# Altium schematic symbol library HW_ADHERENT_NFC_R1_L1.SchLib: 515 symbols (part 4 of 8)
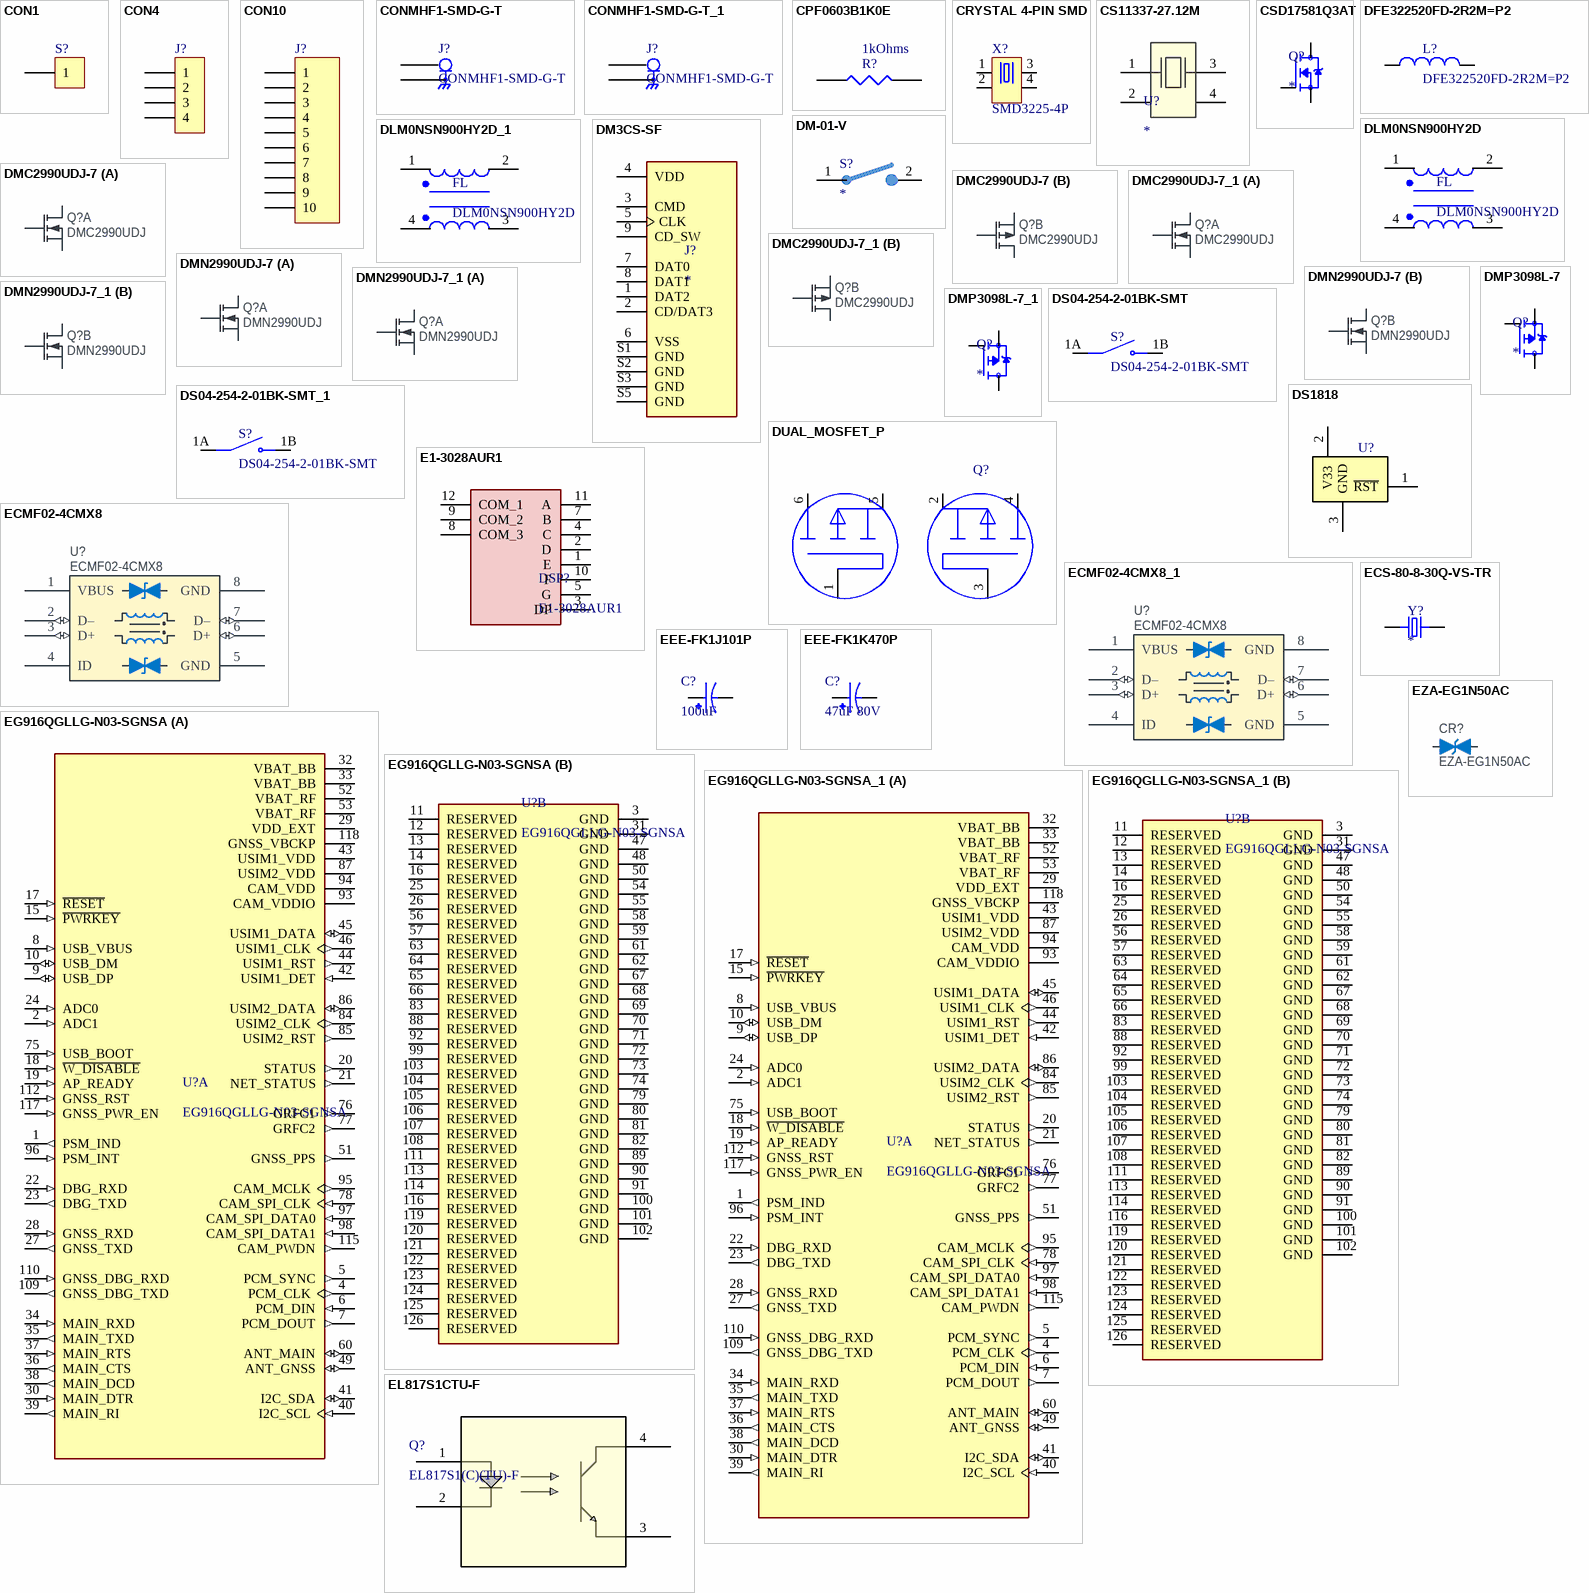
[diagram p18: symbols CON1 to EZA-EG1N50AC]

## DM3CS-SF
designator J?
10 (8 + 2) Position Card Connector Secure Digital - microSDâ„¢ Surface Mount, Right Angle Gold; MF: Hirose Connector; MP: DM3CS-SF; SnapEDA_Link: https://www.snapeda.com/parts/DM3CS-SF/Hirose/view-part/?ref=snap; Package: None; Value: *; Check_prices: https://www.snapeda.com/parts/DM3CS-SF/Hirose/view-part/?ref=eda
footprint HRS_DM3CS-SF
pins: 1 DAT2, 2 CD/DAT3, 3 CMD, 4 VDD, 5 CLK, 6 VSS, 7 DAT0, 8 DAT1, 9 CD_SW, S1 GND, S2 GND, S3 GND, S5 GND

## DM-01-V
designator S?
Switch; Manufacturer_Name: Diptronics; Manufacturer_Part_Number: DM-01-V; Datasheet Link: http://www.dip.com.tw/en/en-product-information/en-switch002/item/download/2412_2ffa0571076f7652f42c65d9d72a148c; Height: 3.91mm; Mouser Part Number: 113-DM01V; Mouser Price/Stock: https://www.mouser.co.uk/ProductDetail/Diptronics/DM-01-V?qs=MLItCLRbWswAak4sKQLihA%3D%3D
footprint DM01V
pins: 1, 2

## DMC2990UDJ-7
designator Q?, comment DMC2990UDJ
MOSFET, Dual N and P-Channel, 20V, 450mA/310mA, 990mOhm, 350mW; Part Number: DMC2990UDJ-7; Manufacturer: Diodes Incorporated; Part number IPS: 00000004489; Part number Norautron: 26470028; Part number NEMS: 101300174; Note: N.A.; Pad Count: 6; Component Status: Active; Manufacturer Part Number: DMC2990UDJ-7; ComponentLink1URL: https://www.diodes.com/assets/Datasheets/DMC2990UDJ.pdf; ComponentLink1Description: Datasheet; ComponentLink2URL: N.A.; ComponentLink2Description: Supplier link; HelpURL: N.A.; Footprint Doc: SOT-963; LatestRevisionDate: 2020-04-28; Published: 2020-02-21; Value: DMC2990UDJ; Supplier 1: Digi-Key; Supplier Part Number 1: DMC2990UDJ-7DICT-ND; Supplier 2: N.A.; Supplier Part Number 2: N.A.; Artikkelnr Noca: N.A.; PartId: 101300174; Component Class: Semiconductors; Author: rsk
footprint DMx299UDJ
part A pins: 1 S1, 2 G1, 6 D1
part B pins: 3 D2, 4 S2, 5 G2

## DMC2990UDJ-7_1
designator Q?, comment DMC2990UDJ
MOSFET, Dual N and P-Channel, 20V, 450mA/310mA, 990mOhm, 350mW; Part Number: DMC2990UDJ-7; Manufacturer: Diodes Incorporated; Part number IPS: 00000004489; Part number Norautron: 26470028; Part number NEMS: 101300174; Note: N.A.; Pad Count: 6; Component Status: Active; Manufacturer Part Number: DMC2990UDJ-7; ComponentLink1URL: https://www.diodes.com/assets/Datasheets/DMC2990UDJ.pdf; ComponentLink1Description: Datasheet; ComponentLink2URL: N.A.; ComponentLink2Description: Supplier link; HelpURL: N.A.; Footprint Doc: SOT-963; LatestRevisionDate: 2020-04-28; Published: 2020-02-21; Value: DMC2990UDJ; Supplier 1: Digi-Key; Supplier Part Number 1: DMC2990UDJ-7DICT-ND; Supplier 2: N.A.; Supplier Part Number 2: N.A.; Artikkelnr Noca: N.A.; PartId: 101300174; Component Class: Semiconductors; Author: rsk
footprint DMx299UDJ
part A pins: 1 S1, 2 G1, 6 D1
part B pins: 3 D2, 4 S2, 5 G2

## DMN2990UDJ-7
designator Q?, comment DMN2990UDJ
MOSFET, Dual N-Channel, 20V, 450mA, 990mOhm, 350mW; Part Number: DMN2990UDJ-7; Manufacturer: Diodes Incorporated; Part number NEMS: 101300177; Note: N.A.; Pad Count: 6; Component Status: Active; Manufacturer Part Number: DMN2990UDJ-7; Footprint Doc: SOT-963; LatestRevisionDate: 2020-05-19; Published: 2020-05-19; Value: DMN2990UDJ; Artikkelnr Noca: N.A.; Part number IPS: N.A.; Supplier 1: Digi-Key; Supplier Part Number 1: DMN2990UDJ-7DICT-ND; Supplier 2: N.A.; Supplier Part Number 2: N.A.; ComponentLink1URL: https://www.diodes.com/assets/Datasheets/DMN2990UDJ.pdf; ComponentLink1Description: Datasheet; ComponentLink2URL: https://www.digikey.com/product-detail/en/diodes-incorporated/DMN2990UDJ-7/DMN2990UDJ-7DICT-ND/2756062; ComponentLink2Description: Supplier link; HelpURL: N.A.; PartId: 101300177; Component Class: Semiconductors; Author: rsk; Part number Norautron: N.A.
footprint DMx299UDJ
part A pins: 1 S1, 2 G1, 6 D1
part B pins: 3 D2, 4 S2, 5 G2

## DMN2990UDJ-7_1
designator Q?, comment DMN2990UDJ
MOSFET, Dual N-Channel, 20V, 450mA, 990mOhm, 350mW; Part Number: DMN2990UDJ-7; Manufacturer: Diodes Incorporated; Part number NEMS: 101300177; Note: N.A.; Pad Count: 6; Component Status: Active; Manufacturer Part Number: DMN2990UDJ-7; Footprint Doc: SOT-963; LatestRevisionDate: 2020-05-19; Published: 2020-05-19; Value: DMN2990UDJ; Artikkelnr Noca: N.A.; Part number IPS: N.A.; Supplier 1: Digi-Key; Supplier Part Number 1: DMN2990UDJ-7DICT-ND; Supplier 2: N.A.; Supplier Part Number 2: N.A.; ComponentLink1URL: https://www.diodes.com/assets/Datasheets/DMN2990UDJ.pdf; ComponentLink1Description: Datasheet; ComponentLink2URL: https://www.digikey.com/product-detail/en/diodes-incorporated/DMN2990UDJ-7/DMN2990UDJ-7DICT-ND/2756062; ComponentLink2Description: Supplier link; HelpURL: N.A.; PartId: 101300177; Component Class: Semiconductors; Author: rsk; Part number Norautron: N.A.
footprint DMx299UDJ
part A pins: 1 S1, 2 G1, 6 D1
part B pins: 3 D2, 4 S2, 5 G2

## DMP3098L-7
designator Q?
DMP3098L Series 30 V 70 mOhm P-Channel Enhancement Mode Mosfet - SOT-23-3; MP: DMP3098L7; MF: Diodes Incorporated; SnapEDA_Link: https://www.snapeda.com/parts/DMP3098L7/Diodes+Inc./view-part/?ref=snap; Availability: In Stock; Package: None; Purchase-URL: https://pricing.snapeda.com/search/part/DMP3098L7/?ref=eda; Check_prices: https://www.snapeda.com/parts/DMP3098L7/Diodes+Inc./view-part/?ref=eda; Value: *; Price: None
footprint SOT91P240X110-3N
pins: 1 G, 2 S, 3 D

## DMP3098L-7_1
designator Q?
DMP3098L Series 30 V 70 mOhm P-Channel Enhancement Mode Mosfet - SOT-23-3; MP: DMP3098L7; MF: Diodes Incorporated; SnapEDA_Link: https://www.snapeda.com/parts/DMP3098L7/Diodes+Inc./view-part/?ref=snap; Availability: In Stock; Package: None; Purchase-URL: https://pricing.snapeda.com/search/part/DMP3098L7/?ref=eda; Check_prices: https://www.snapeda.com/parts/DMP3098L7/Diodes+Inc./view-part/?ref=eda; Value: *; Price: None
footprint SOT91P240X110-3N
pins: 1 G, 2 S, 3 D

## DS04-254-2-01BK-SMT
designator S?
1 Position, Surface Mount, 2.54 mm Pitch, Flat Slide Actuator, Flat Bottom, SMT Pin, DIP Switch; MF: Same Sky; SnapEDA_Link: https://www.snapeda.com/parts/DS04-254-2-01BK-SMT/Same+Sky/view-part/?ref=snap; Package: None; Value: *; MP: DS04-254-2-01BK-SMT; Check_prices: https://www.snapeda.com/parts/DS04-254-2-01BK-SMT/Same+Sky/view-part/?ref=eda
footprint SW_DS04-254-2-01BK-SMT
pins: 1A COM, 1B NO

## DS04-254-2-01BK-SMT_1
designator S?, comment DS04-254-2-01BK-SMT
1 Position, Surface Mount, 2.54 mm Pitch, Flat Slide Actuator, Flat Bottom, SMT Pin, DIP Switch; MF: Same Sky; SnapEDA_Link: https://www.snapeda.com/parts/DS04-254-2-01BK-SMT/Same+Sky/view-part/?ref=snap; Package: None; Value: *; MP: DS04-254-2-01BK-SMT; Check_prices: https://www.snapeda.com/parts/DS04-254-2-01BK-SMT/Same+Sky/view-part/?ref=eda
footprint SW_DS04-254-2-01BK-SMT
pins: 1A COM, 1B NO

## DS1818
designator U?
footprint DS1818
pins: 1 ~{RST}, 2 V33, 3 GND

## DUAL_MOSFET_P
designator Q?
footprint SSOT6A
pins: 1, 2, 3, 4, 5, 6

## E1-3028AUR1
designator DSP?
footprint E1-3028AUR1
pins: 1 E, 2 D, 3 DP, 4 C, 5 G, 7 B, 8 COM_3, 9 COM_2, 10 F, 11 A, 12 COM_1

## ECMF02-4CMX8
designator U?
2 Line Common mode filter with ESD protection for USB 2.0 interface; Manufacturer: STMicroelectronics; Part number NEMS: 100800034; Component Status: Active; Pad Count: 8; Note: N.A.; Part Number: ECMF02-4CMX8; PartId: 100800034; Component Class: Filters; Author: eisk; Manufacturer Part Number: ECMF02-4CMX8; ComponentLink1URL: https://www.st.com/content/ccc/resource/technical/document/datasheet/group3/1c/93/cf/72/85/cf/4d/d6/DM00039389/files/DM00039389.pdf/jcr:content/translations/en.DM00039389.pdf; ComponentLink1Description: Datasheet; ComponentLink2URL: https://www.digikey.com/en/products/detail/stmicroelectronics/ECMF02-4CMX8/3770020; ComponentLink2Description: Supplier link; HelpURL: https://www.st.com/content/ccc/resource/technical/document/datasheet/group3/1c/93/cf/72/85/cf/4d/d6/DM00039389/files/DM00039389.pdf/jcr:content/translations/en.DM00039389.pdf; LatestRevisionDate: 2024-01-31; Published: 2024-01-31; Footprint Doc: UFDFN-8; Value: ECMF02-4CMX8; Supplier 1: Digi-Key; Supplier Part Number 1: 497-13420-2-ND; Supplier 2: Mouser; Supplier Part Number 2: 511-ECMF02-4CMX8; Artikkelnr Noca: N.A.; Part number IPS: N.A.; Part number Norautron: N.A.
footprint UFDFN50P120X250X55-8N
pins: 1 VBUS (power), 2 D– (io), 3 D+ (io), 4 ID, 5 GND (power), 6 D+ (io), 7 D– (io), 8 GND (power)

## ECMF02-4CMX8_1
designator U?, comment ECMF02-4CMX8
2 Line Common mode filter with ESD protection for USB 2.0 interface; Manufacturer: STMicroelectronics; Part number NEMS: 100800034; Component Status: Active; Pad Count: 8; Note: N.A.; Part Number: ECMF02-4CMX8; PartId: 100800034; Component Class: Filters; Author: eisk; Manufacturer Part Number: ECMF02-4CMX8; ComponentLink1URL: https://www.st.com/content/ccc/resource/technical/document/datasheet/group3/1c/93/cf/72/85/cf/4d/d6/DM00039389/files/DM00039389.pdf/jcr:content/translations/en.DM00039389.pdf; ComponentLink1Description: Datasheet; ComponentLink2URL: https://www.digikey.com/en/products/detail/stmicroelectronics/ECMF02-4CMX8/3770020; ComponentLink2Description: Supplier link; HelpURL: https://www.st.com/content/ccc/resource/technical/document/datasheet/group3/1c/93/cf/72/85/cf/4d/d6/DM00039389/files/DM00039389.pdf/jcr:content/translations/en.DM00039389.pdf; LatestRevisionDate: 2024-01-31; Published: 2024-01-31; Footprint Doc: UFDFN-8; Value: ECMF02-4CMX8; Supplier 1: Digi-Key; Supplier Part Number 1: 497-13420-2-ND; Supplier 2: Mouser; Supplier Part Number 2: 511-ECMF02-4CMX8; Artikkelnr Noca: N.A.; Part number IPS: N.A.; Part number Norautron: N.A.
footprint UFDFN50P120X250X55-8N
pins: 1 VBUS (power), 2 D– (io), 3 D+ (io), 4 ID, 5 GND (power), 6 D+ (io), 7 D– (io), 8 GND (power)

## ECS-80-8-30Q-VS-TR
designator Y?
8 MHz Â±30ppm Crystal 8pF 100 Ohms 2-SMD, No Lead; MF: ECS Inc.; MP: ECS-80-8-30Q-VS-TR; SnapEDA_Link: https://www.snapeda.com/parts/ECS-80-8-30Q-VS-TR/ECS/view-part/?ref=snap; Package: SMD-2 ECS Inc.; Value: *; Check_prices: https://www.snapeda.com/parts/ECS-80-8-30Q-VS-TR/ECS/view-part/?ref=eda
footprint XTAL_ECS-80-8-30Q-VS-TR
pins: 1 IN/OUT, 2 OUT/IN

## EEE-FK1J101P
designator C?, comment 100uF
100 µF 63 V Aluminum Electrolytic Capacitors Radial, Can - SMD 2000 Hrs @ 105°C; Manufacturer: Panasonic Industry; Supplier: Digi; PCE3819DKR-ND
footprint CAP_EEEFK1J101P
pins: 1, 2

## EEE-FK1K470P
designator C?, comment 47uF 80V
47 µF 80 V Aluminum Electrolytic Capacitors Radial, Can - SMD 2000 Hrs @ 105°C; Manufacturer: Panasonic Industry; Supplier: Digi; PCE3831DKR-ND
footprint CAP_EEEFK1K470P
pins: 1, 2

## EG916QGLLG-N03-SGNSA
designator U?
Transceiver Module; MF: {'manufacturer': u'Quectel'}; Package: None; Price: None; Value: *; MP: EG916QGLLG-N03-SGNSA; Availability: Unavailable
footprint XCVR_EG916QGLLG-N03-SGNSA
part A pins: 1 PSM_IND (out), 2 ADC1 (in), 4 PCM_CLK (out), 5 PCM_SYNC (out), 6 PCM_DIN (in), 7 PCM_DOUT (out), 8 USB_VBUS (in), 9 USB_DP (io), 10 USB_DM (io), 15 ~{PWRKEY} (in), 17 ~{RESET} (in), 18 ~{W_DISABLE} (in), 19 AP_READY (in), 20 STATUS (out), 21 NET_STATUS (out), 22 DBG_RXD (in), 23 DBG_TXD (out), 24 ADC0 (in), 27 GNSS_TXD (out), 28 GNSS_RXD (in), 29 VDD_EXT (power), 30 MAIN_DTR (in), 32 VBAT_BB (power), 33 VBAT_BB (power), 34 MAIN_RXD (in), 35 MAIN_TXD (out), 36 MAIN_CTS (out), 37 MAIN_RTS (in), 38 MAIN_DCD (out), 39 MAIN_RI (out), 40 I2C_SCL (in), 41 I2C_SDA (io), 42 USIM1_DET (in), 43 USIM1_VDD (power), 44 USIM1_RST (out), 45 USIM1_DATA (io), 46 USIM1_CLK (out), 49 ANT_GNSS (io), 51 GNSS_PPS (out), 52 VBAT_RF (power), 53 VBAT_RF (power), 60 ANT_MAIN (io), 75 USB_BOOT (in), 76 GRFC1 (out), 77 GRFC2 (out), 78 CAM_SPI_CLK (in), 84 USIM2_CLK (out), 85 USIM2_RST (out), 86 USIM2_DATA (io), 87 USIM2_VDD (power), 93 CAM_VDDIO (power), 94 CAM_VDD (power), 95 CAM_MCLK (out), 96 PSM_INT (in), 97 CAM_SPI_DATA0 (in), 98 CAM_SPI_DATA1 (in), 109 GNSS_DBG_TXD (out), 110 GNSS_DBG_RXD (in), 112 GNSS_RST (in), 115 CAM_PWDN (out), 117 GNSS_PWR_EN (in), 118 GNSS_VBCKP (power)
part B pins: 3 GND (power), 11 RESERVED, 12 RESERVED, 13 RESERVED, 14 RESERVED, 16 RESERVED, 25 RESERVED, 26 RESERVED, 31 GND (power), 47 GND (power), 48 GND (power), 50 GND (power), 54 GND (power), 55 GND (power), 56 RESERVED, 57 RESERVED, 58 GND (power), 59 GND (power), 61 GND (power), 62 GND (power), 63 RESERVED, 64 RESERVED, 65 RESERVED, 66 RESERVED, 67 GND (power), 68 GND (power), 69 GND (power), 70 GND (power), 71 GND (power), 72 GND (power), 73 GND (power), 74 GND (power), 79 GND (power), 80 GND (power), 81 GND (power), 82 GND (power), 83 RESERVED, 88 RESERVED, 89 GND (power), 90 GND (power), 91 GND (power), 92 RESERVED, 99 RESERVED, 100 GND (power), 101 GND (power), 102 GND (power), 103 RESERVED, 104 RESERVED, 105 RESERVED, 106 RESERVED, 107 RESERVED, 108 RESERVED, 111 RESERVED, 113 RESERVED, 114 RESERVED, 116 RESERVED, 119 RESERVED, 120 RESERVED, 121 RESERVED, 122 RESERVED, 123 RESERVED, 124 RESERVED, 125 RESERVED, 126 RESERVED

## EG916QGLLG-N03-SGNSA_1
designator U?, comment EG916QGLLG-N03-SGNSA
Transceiver Module; MF: {'manufacturer': u'Quectel'}; Package: None; Price: None; Value: *; MP: EG916QGLLG-N03-SGNSA; Availability: Unavailable
footprint XCVR_EG916QGLLG-N03-SGNSA
part A pins: 1 PSM_IND (out), 2 ADC1 (in), 4 PCM_CLK (out), 5 PCM_SYNC (out), 6 PCM_DIN (in), 7 PCM_DOUT (out), 8 USB_VBUS (in), 9 USB_DP (io), 10 USB_DM (io), 15 ~{PWRKEY} (in), 17 ~{RESET} (in), 18 ~{W_DISABLE} (in), 19 AP_READY (in), 20 STATUS (out), 21 NET_STATUS (out), 22 DBG_RXD (in), 23 DBG_TXD (out), 24 ADC0 (in), 27 GNSS_TXD (out), 28 GNSS_RXD (in), 29 VDD_EXT (power), 30 MAIN_DTR (in), 32 VBAT_BB (power), 33 VBAT_BB (power), 34 MAIN_RXD (in), 35 MAIN_TXD (out), 36 MAIN_CTS (out), 37 MAIN_RTS (in), 38 MAIN_DCD (out), 39 MAIN_RI (out), 40 I2C_SCL (in), 41 I2C_SDA (io), 42 USIM1_DET (in), 43 USIM1_VDD (power), 44 USIM1_RST (out), 45 USIM1_DATA (io), 46 USIM1_CLK (out), 49 ANT_GNSS (io), 51 GNSS_PPS (out), 52 VBAT_RF (power), 53 VBAT_RF (power), 60 ANT_MAIN (io), 75 USB_BOOT (in), 76 GRFC1 (out), 77 GRFC2 (out), 78 CAM_SPI_CLK (in), 84 USIM2_CLK (out), 85 USIM2_RST (out), 86 USIM2_DATA (io), 87 USIM2_VDD (power), 93 CAM_VDDIO (power), 94 CAM_VDD (power), 95 CAM_MCLK (out), 96 PSM_INT (in), 97 CAM_SPI_DATA0 (in), 98 CAM_SPI_DATA1 (in), 109 GNSS_DBG_TXD (out), 110 GNSS_DBG_RXD (in), 112 GNSS_RST (in), 115 CAM_PWDN (out), 117 GNSS_PWR_EN (in), 118 GNSS_VBCKP (power)
part B pins: 3 GND (power), 11 RESERVED, 12 RESERVED, 13 RESERVED, 14 RESERVED, 16 RESERVED, 25 RESERVED, 26 RESERVED, 31 GND (power), 47 GND (power), 48 GND (power), 50 GND (power), 54 GND (power), 55 GND (power), 56 RESERVED, 57 RESERVED, 58 GND (power), 59 GND (power), 61 GND (power), 62 GND (power), 63 RESERVED, 64 RESERVED, 65 RESERVED, 66 RESERVED, 67 GND (power), 68 GND (power), 69 GND (power), 70 GND (power), 71 GND (power), 72 GND (power), 73 GND (power), 74 GND (power), 79 GND (power), 80 GND (power), 81 GND (power), 82 GND (power), 83 RESERVED, 88 RESERVED, 89 GND (power), 90 GND (power), 91 GND (power), 92 RESERVED, 99 RESERVED, 100 GND (power), 101 GND (power), 102 GND (power), 103 RESERVED, 104 RESERVED, 105 RESERVED, 106 RESERVED, 107 RESERVED, 108 RESERVED, 111 RESERVED, 113 RESERVED, 114 RESERVED, 116 RESERVED, 119 RESERVED, 120 RESERVED, 121 RESERVED, 122 RESERVED, 123 RESERVED, 124 RESERVED, 125 RESERVED, 126 RESERVED

## EL817S1CTU-F
designator Q?, comment EL817S1(C)(TU)-F
Description; Manufacturer_Name: Everlight; Copyright: Copyright (C) 2025 Ultra Librarian. All rights reserved.; Manufacturer_Part_Number: EL817S1(C)(TU)-F; RefDes: RefDes; Type: Type
footprint EL817S1_EVE
pins: 1, 2, 3, 4

## EZA-EG1N50AC
designator CR?
ESD Suppressor, 30V, 0.04pF; Manufacturer: Panasonic; Part number IPS: 00000004437; Part number NEMS: 101300173; Note: N.A.; Pad Count: 2; Component Status: Active; Part Number: EZA-EG1N50AC; Manufacturer Part Number: EZA-EG1N50AC; ComponentLink1URL: https://industrial.panasonic.com/cdbs/www-data/pdf/AWD0000/AWD0000C13.pdf; ComponentLink1Description: Datasheet; ComponentLink2URL: N.A.; ComponentLink2Description: Supplier link; HelpURL: N.A.; Footprint Doc: 0201; LatestRevisionDate: 2024-02-01; Published: 2020-02-06; Value: EZA-EG1N50AC; Artikkelnr Noca: N.A.; Supplier 1: Digi-Key; Supplier Part Number 1: P122037CT-ND; Supplier 2: N.A.; Supplier Part Number 2: N.A.; Author: rsk; Component Class: Semiconductors; PartId: 101300173; Part number Norautron: N.A.
footprint RESC0603X03L_C
pins: 1, 2

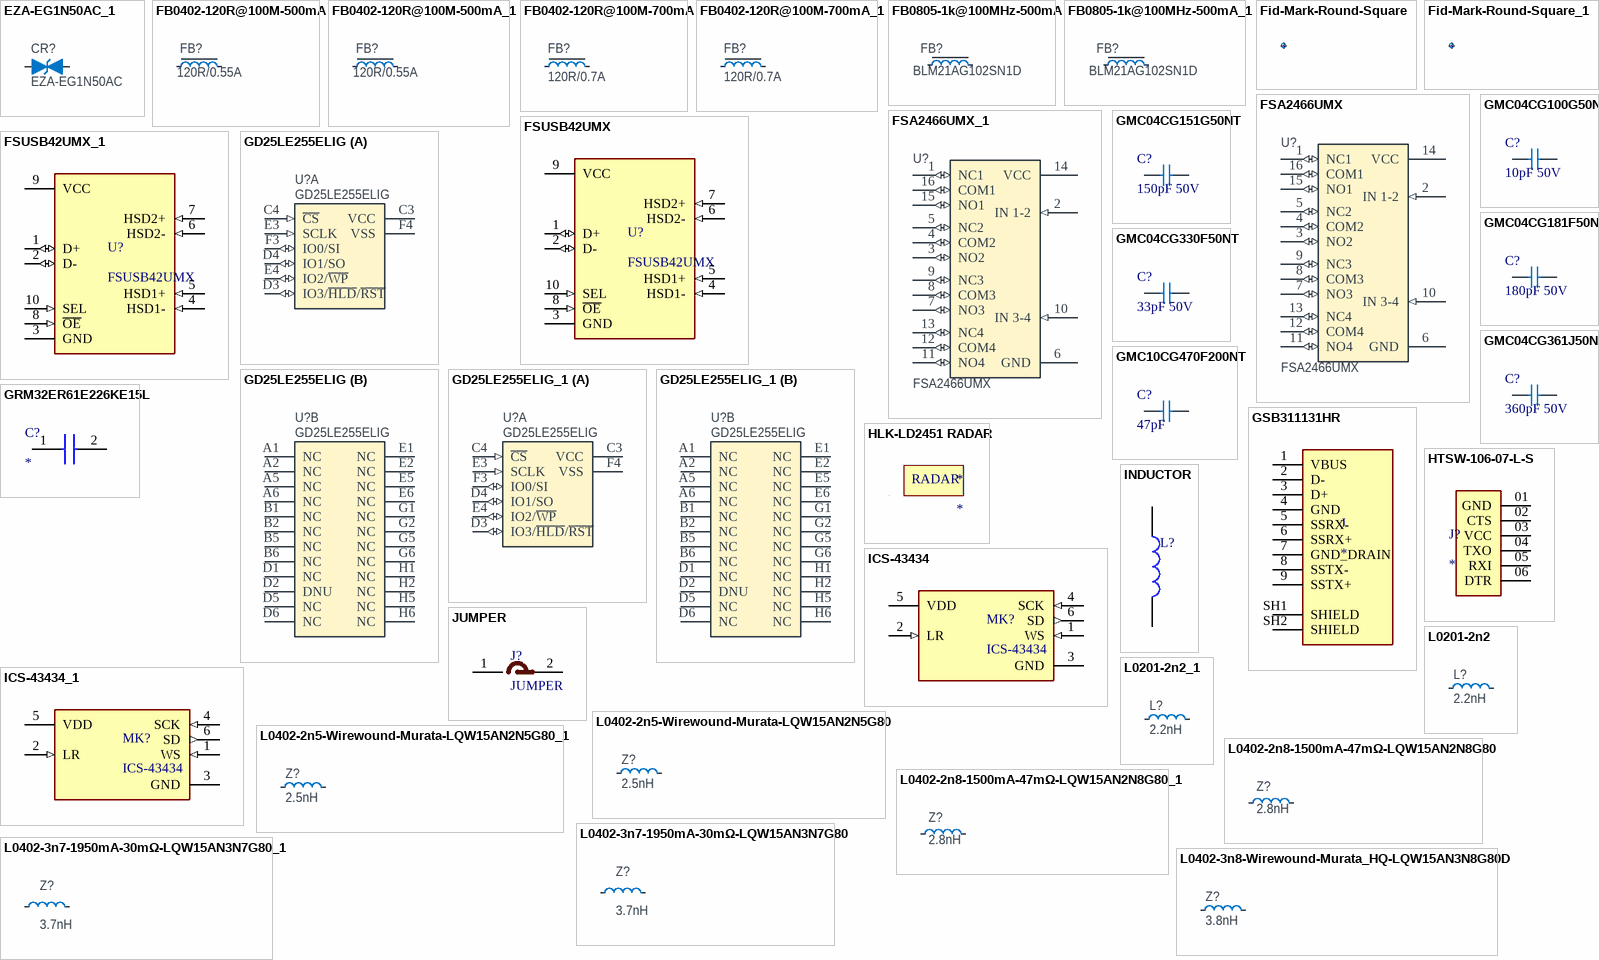
[diagram p6: symbols EZA-EG1N50AC_1 to L0402-3n8-Wirewound-Murata_HQ-LQW15AN3N8G80D]

## EZA-EG1N50AC_1
designator CR?, comment EZA-EG1N50AC
ESD Suppressor, 30V, 0.04pF; Manufacturer: Panasonic; Part number IPS: 00000004437; Part number NEMS: 101300173; Note: N.A.; Pad Count: 2; Component Status: Active; Part Number: EZA-EG1N50AC; Manufacturer Part Number: EZA-EG1N50AC; ComponentLink1URL: https://industrial.panasonic.com/cdbs/www-data/pdf/AWD0000/AWD0000C13.pdf; ComponentLink1Description: Datasheet; ComponentLink2URL: N.A.; ComponentLink2Description: Supplier link; HelpURL: N.A.; Footprint Doc: 0201; LatestRevisionDate: 2024-02-01; Published: 2020-02-06; Value: EZA-EG1N50AC; Artikkelnr Noca: N.A.; Supplier 1: Digi-Key; Supplier Part Number 1: P122037CT-ND; Supplier 2: N.A.; Supplier Part Number 2: N.A.; Author: rsk; Component Class: Semiconductors; PartId: 101300173; Part number Norautron: N.A.
footprint RESC0603X03L_C
pins: 1, 2

## FB0402-120R@100M-500mA
designator FB?, comment 120R/0.55A
Ferrite Bead, 120 Ohm @ 100MHz, 500mA, 250 mOhm Max; Part Number: FB0402-120R@100M-500mA; Manufacturer: Murata; Manufacturer Part Number: BLM15AG121SN1D; Part number IPS: 00000009954; Part number Norautron: 265230631; Part number NEMS: 100300099; Note: Chip EMIFIL Inductor Type Chip Ferrite Bead; Artikkelnr Noca: 33029317; Pad Count: 2; Component Status: Active; Footprint Doc: 0402; LatestRevisionDate: 2014-01-10; Published: 2011-11-14; Value: 120R/0.55A; ComponentLink1Description: Datasheet; ComponentLink2Description: Supplier link; ComponentLink1URL: N.A.; ComponentLink2URL: N.A.; HelpURL: http://search.murata.co.jp/Ceramy/image/img/PDF/ENG/L0110S0100BLM15A_SN.pdf; Supplier 1: Digi-Key; Supplier Part Number 1: 490-1005-1-ND; Supplier 2: Farnell; Supplier Part Number 2: 151-5760; Component Class: Inductors; PartId: 100300099; Author: rsk
footprint INDC1005X04L
pins: 1, 2

## FB0402-120R@100M-500mA_1
designator FB?, comment 120R/0.55A
Ferrite Bead, 120 Ohm @ 100MHz, 500mA, 250 mOhm Max; Part Number: FB0402-120R@100M-500mA; Manufacturer: Murata; Manufacturer Part Number: BLM15AG121SN1D; Part number IPS: 00000009954; Part number Norautron: 265230631; Part number NEMS: 100300099; Note: Chip EMIFIL Inductor Type Chip Ferrite Bead; Artikkelnr Noca: 33029317; Pad Count: 2; Component Status: Active; Footprint Doc: 0402; LatestRevisionDate: 2014-01-10; Published: 2011-11-14; Value: 120R/0.55A; ComponentLink1Description: Datasheet; ComponentLink2Description: Supplier link; ComponentLink1URL: N.A.; ComponentLink2URL: N.A.; HelpURL: http://search.murata.co.jp/Ceramy/image/img/PDF/ENG/L0110S0100BLM15A_SN.pdf; Supplier 1: Digi-Key; Supplier Part Number 1: 490-1005-1-ND; Supplier 2: Farnell; Supplier Part Number 2: 151-5760; Component Class: Inductors; PartId: 100300099; Author: rsk
footprint INDC1005X04L
pins: 1, 2

## FB0402-120R@100M-700mA
designator FB?, comment 120R/0.7A
Ferrite Bead, 120 Ohm @ 100MHz, 700mA, 130 mOhm Max; Part Number: FB0402-120R@100M-700mA; Manufacturer: Murata; Manufacturer Part Number: BLM15AX121SN1; Part number IPS: 00000004487; Part number NEMS: 100300100; Component Status: Active; Pad Count: 2; Note: N.A.; PartId: 100300100; Component Class: Inductors; Author: rsk; ComponentLink1URL: https://www.murata.com/en-us/products/productdata/8796740059166/ENFA0018.pdf; ComponentLink1Description: Datasheet; ComponentLink2URL: N.A.; ComponentLink2Description: Supplier link; HelpURL: https://www.murata.com/products/productdetail?partno=BLM15AX121SN1%23; LatestRevisionDate: 2020-04-28; Published: 2020-04-28; Footprint Doc: 0402; Value: 120R/0.7A; Supplier 1: Digi-Key; Supplier Part Number 1: 490-5439-1-ND; Supplier 2: N.A.; Supplier Part Number 2: N.A.; Artikkelnr Noca: N.A.; Part number Norautron: N.A.
footprint INDC1005X04L
footprint INDC1608X06L (Chip Inductor, 2-Leads, Body 1.6x0.8mm, IPC High Density)
pins: 1, 2

## FB0402-120R@100M-700mA_1
designator FB?, comment 120R/0.7A
Ferrite Bead, 120 Ohm @ 100MHz, 700mA, 130 mOhm Max; Part Number: FB0402-120R@100M-700mA; Manufacturer: Murata; Manufacturer Part Number: BLM15AX121SN1; Part number IPS: 00000004487; Part number NEMS: 100300100; Component Status: Active; Pad Count: 2; Note: N.A.; PartId: 100300100; Component Class: Inductors; Author: rsk; ComponentLink1URL: https://www.murata.com/en-us/products/productdata/8796740059166/ENFA0018.pdf; ComponentLink1Description: Datasheet; ComponentLink2URL: N.A.; ComponentLink2Description: Supplier link; HelpURL: https://www.murata.com/products/productdetail?partno=BLM15AX121SN1%23; LatestRevisionDate: 2020-04-28; Published: 2020-04-28; Footprint Doc: 0402; Value: 120R/0.7A; Supplier 1: Digi-Key; Supplier Part Number 1: 490-5439-1-ND; Supplier 2: N.A.; Supplier Part Number 2: N.A.; Artikkelnr Noca: N.A.; Part number Norautron: N.A.
footprint INDC1005X04L
footprint INDC1608X06L (Chip Inductor, 2-Leads, Body 1.6x0.8mm, IPC High Density)
pins: 1, 2

## FB0805-1k@100MHz-500mA
designator FB?, comment BLM21AG102SN1D
Ferrite Bead, 1k Ohm @ 100MHz, 500mA, 280 mOhm Max; Part Number: FB0805-1k@100MHz-500mA; Manufacturer: Murata; Part number NEMS: 100300399; Component Status: Active; Pad Count: 2; Note: Inductor Type Chip Ferrite Bead; Artikkelnr Noca: N.A.; PartId: 100300399; Component Class: Inductors; Author: rsk; Manufacturer Part Number: BLM21AG102SN1D; ComponentLink1URL: https://www.murata.com/en-us/products/en-us/products/productdata/8796738977822/ENFA0005.pdf; ComponentLink1Description: Datasheet; ComponentLink2URL: https://www.digikey.no/product-detail/en/murata-electronics/BLM21AG102SN1D/490-1041-1-ND/574404; ComponentLink2Description: Supplier link; HelpURL: https://www.murata.com/en-us/products/productdetail?partno=BLM21AG102SN1%23; Footprint Doc: 0805; LatestRevisionDate: 2024-05-09; Published: 2020-05-13; Value: BLM21AG102SN1D; Supplier 1: Digi-Key; Supplier Part Number 1: 490-1041-1-ND; Supplier 2: Mouser; Supplier Part Number 2: 81-BLM21AG102SN1; Part number IPS: N.A.; Part number Norautron: N.A.
footprint INDC2012X11L
pins: 1, 2

## FB0805-1k@100MHz-500mA_1
designator FB?, comment BLM21AG102SN1D
Ferrite Bead, 1k Ohm @ 100MHz, 500mA, 280 mOhm Max; Part Number: FB0805-1k@100MHz-500mA; Manufacturer: Murata; Part number NEMS: 100300399; Component Status: Active; Pad Count: 2; Note: Inductor Type Chip Ferrite Bead; Artikkelnr Noca: N.A.; PartId: 100300399; Component Class: Inductors; Author: rsk; Manufacturer Part Number: BLM21AG102SN1D; ComponentLink1URL: https://www.murata.com/en-us/products/en-us/products/productdata/8796738977822/ENFA0005.pdf; ComponentLink1Description: Datasheet; ComponentLink2URL: https://www.digikey.no/product-detail/en/murata-electronics/BLM21AG102SN1D/490-1041-1-ND/574404; ComponentLink2Description: Supplier link; HelpURL: https://www.murata.com/en-us/products/productdetail?partno=BLM21AG102SN1%23; Footprint Doc: 0805; LatestRevisionDate: 2024-05-09; Published: 2020-05-13; Value: BLM21AG102SN1D; Supplier 1: Digi-Key; Supplier Part Number 1: 490-1041-1-ND; Supplier 2: Mouser; Supplier Part Number 2: 81-BLM21AG102SN1; Part number IPS: N.A.; Part number Norautron: N.A.
footprint INDC2012X11L
pins: 1, 2

## Fid-Mark-Round-Square
designator Fid?, comment Fiducial mark  (value not drawn)
Part Number: Fid-Mark-Round-Square; Manufacturer: N.A.; Part number NEMS: 100500075; Value: N.A.; Pad Count: 1; Component Status: Active; System: Connector; Manufacturer Part Number: N.A.; LatestRevisionDate: 2017-01-30; Published: 2009-12-12; Note: N.A.; Artikkelnr Noca: N.A.; Footprint Doc: Fiducial; Part number IPS: N.A.; ComponentLink1URL: N.A.; ComponentLink1Description: Datasheet; ComponentLink2URL: N.A.; ComponentLink2Description: Supplier link; HelpURL: N.A.; Supplier 1: N.A.; Supplier Part Number 1: N.A.; Supplier 2: N.A.; Supplier Part Number 2: N.A.; Author: rsk; Component Class: Connectors; PartId: 100500075; Part number Norautron: N.A.
footprint Fiducial_Round-Square

## Fid-Mark-Round-Square_1
designator Fid?, comment Fiducial mark  (value not drawn)
Part Number: Fid-Mark-Round-Square; Manufacturer: N.A.; Part number NEMS: 100500075; Value: N.A.; Pad Count: 1; Component Status: Active; System: Connector; Manufacturer Part Number: N.A.; LatestRevisionDate: 2017-01-30; Published: 2009-12-12; Note: N.A.; Artikkelnr Noca: N.A.; Footprint Doc: Fiducial; Part number IPS: N.A.; ComponentLink1URL: N.A.; ComponentLink1Description: Datasheet; ComponentLink2URL: N.A.; ComponentLink2Description: Supplier link; HelpURL: N.A.; Supplier 1: N.A.; Supplier Part Number 1: N.A.; Supplier 2: N.A.; Supplier Part Number 2: N.A.; Author: rsk; Component Class: Connectors; PartId: 100500075; Part number Norautron: N.A.
footprint Fiducial_Round-Square

## FSA2466UMX
designator U?
Data / Audio Low-Voltage Dual DPDT Analog Switch; Manufacturer: ON Semiconductor; Part number IPS: 00000009986; Part number Norautron: 26500608; Part number NEMS: 101900422; Note: N.A.; Artikkelnr Noca: 15070069; Pad Count: 16; Component Status: Active; Part Number: FSA2466UMX; Manufacturer Part Number: FSA2466UMX; ComponentLink1URL: N.A.; ComponentLink1Description: Datasheet; ComponentLink2URL: N.A.; ComponentLink2Description: Supplier link; HelpURL: https://www.onsemi.com/pub/Collateral/FSA2466-D.PDF; Footprint Doc: UFQFN-16; LatestRevisionDate: 2019-05-15; Published: 2016-05-18; Value: FSA2466UMX; Supplier 1: Digi-Key; Supplier Part Number 1: FSA2466UMXCT-ND; Supplier 2: Mouser; Supplier Part Number 2: 512-FSA2466UMX; Component Class: Misc_ICs; PartId: 101900422; Author: rsk
footprint XQFN40P180X260X50-16N
pins: 1 NC1 (io), 2 IN 1-2 (in), 3 NO2 (io), 4 COM2 (io), 5 NC2 (io), 6 GND (power), 7 NO3 (io), 8 COM3 (io), 9 NC3 (io), 10 IN 3-4 (in), 11 NO4 (io), 12 COM4 (io), 13 NC4 (io), 14 VCC (power), 15 NO1 (io), 16 COM1 (io)
1 alternate drawing of the same symbol

## FSA2466UMX_1
designator U?, comment FSA2466UMX
Data / Audio Low-Voltage Dual DPDT Analog Switch; Manufacturer: ON Semiconductor; Part number IPS: 00000009986; Part number Norautron: 26500608; Part number NEMS: 101900422; Note: N.A.; Artikkelnr Noca: 15070069; Pad Count: 16; Component Status: Active; Part Number: FSA2466UMX; Manufacturer Part Number: FSA2466UMX; ComponentLink1URL: N.A.; ComponentLink1Description: Datasheet; ComponentLink2URL: N.A.; ComponentLink2Description: Supplier link; HelpURL: https://www.onsemi.com/pub/Collateral/FSA2466-D.PDF; Footprint Doc: UFQFN-16; LatestRevisionDate: 2019-05-15; Published: 2016-05-18; Value: FSA2466UMX; Supplier 1: Digi-Key; Supplier Part Number 1: FSA2466UMXCT-ND; Supplier 2: Mouser; Supplier Part Number 2: 512-FSA2466UMX; Component Class: Misc_ICs; PartId: 101900422; Author: rsk
footprint XQFN40P180X260X50-16N
pins: 1 NC1 (io), 2 IN 1-2 (in), 3 NO2 (io), 4 COM2 (io), 5 NC2 (io), 6 GND (power), 7 NO3 (io), 8 COM3 (io), 9 NC3 (io), 10 IN 3-4 (in), 11 NO4 (io), 12 COM4 (io), 13 NC4 (io), 14 VCC (power), 15 NO1 (io), 16 COM1 (io)
1 alternate drawing of the same symbol

## FSUSB42UMX
designator U?
USB Switch IC 1 Channel 10-UMLP (1.8x1.4); MF: ON Semiconductor; SnapEDA_Link: https://www.snapeda.com/parts/FSUSB42UMX/Onsemi/view-part/?ref=snap; Package: UQFN-10 ON Semiconductor; Value: *; MP: FSUSB42UMX; Check_prices: https://www.snapeda.com/parts/FSUSB42UMX/Onsemi/view-part/?ref=eda
footprint IC_FSUSB42UMX
pins: 1 D+ (io), 2 D- (io), 3 GND (power), 4 HSD1- (in), 5 HSD1+ (in), 6 HSD2- (in), 7 HSD2+ (in), 8 ~{OE} (in), 9 VCC (power), 10 SEL (in)

## FSUSB42UMX_1
designator U?, comment FSUSB42UMX
USB Switch IC 1 Channel 10-UMLP (1.8x1.4); MF: ON Semiconductor; SnapEDA_Link: https://www.snapeda.com/parts/FSUSB42UMX/Onsemi/view-part/?ref=snap; Package: UQFN-10 ON Semiconductor; Value: *; MP: FSUSB42UMX; Check_prices: https://www.snapeda.com/parts/FSUSB42UMX/Onsemi/view-part/?ref=eda
footprint IC_FSUSB42UMX
pins: 1 D+ (io), 2 D- (io), 3 GND (power), 4 HSD1- (in), 5 HSD1+ (in), 6 HSD2- (in), 7 HSD2+ (in), 8 ~{OE} (in), 9 VCC (power), 10 SEL (in)

## GD25LE255ELIG
designator U?
Quad Serial Flash, 256Mbit, 133MHz, 1.65V - 2.0V; Manufacturer: GigaDevice; Part number NEMS: 101900759; Note: N.A.; Pad Count: 32; Component Status: Active; Part Number: GD25LE255ELIG; Manufacturer Part Number: GD25LE255ELIG; Footprint Doc: 32-WLSCP; LatestRevisionDate: 2023-01-11; Published: 2023-01-11; Value: GD25LE255ELIG; Artikkelnr Noca: N.A.; Part number IPS: N.A.; ComponentLink1URL: https://www.gigadevice.com/datasheet/gd25le255e/; ComponentLink1Description: Datasheet; ComponentLink2URL: https://no.mouser.com/ProductDetail/GigaDevice/GD25LE255ELIGR?qs=81r%252BiQLm7BRinJH1OgrMdw%3D%3D; ComponentLink2Description: Supplier link; HelpURL: https://www.gigadevice.com/flash-memory/gd25le255e/; Supplier 1: Mouser; Supplier Part Number 1: 363-GD25LE255ELIGR; Supplier 2: N.A.; Supplier Part Number 2: N.A.; Author: rubr; Component Class: Misc_ICs; Part number Norautron: N.A.; PartId: 101900759
footprint BGA32C50P6X8_350X400X50
part A pins: C3 VCC (power), C4 ~{CS} (in), D3 IO3/~{HLD}/~{RST} (io), D4 IO1/SO (io), E3 SCLK (in), E4 IO2/~{WP} (io), F3 IO0/SI (io), F4 VSS (power)
part B pins: A1 NC, A2 NC, A5 NC, A6 NC, B1 NC, B2 NC, B5 NC, B6 NC, D1 NC, D2 DNU, D5 NC, D6 NC, E1 NC, E2 NC, E5 NC, E6 NC, G1 NC, G2 NC, G5 NC, G6 NC, H1 NC, H2 NC, H5 NC, H6 NC, x NC hidden

## GD25LE255ELIG_1
designator U?, comment GD25LE255ELIG
Quad Serial Flash, 256Mbit, 133MHz, 1.65V - 2.0V; Manufacturer: GigaDevice; Part number NEMS: 101900759; Note: N.A.; Pad Count: 32; Component Status: Active; Part Number: GD25LE255ELIG; Manufacturer Part Number: GD25LE255ELIG; Footprint Doc: 32-WLSCP; LatestRevisionDate: 2023-01-11; Published: 2023-01-11; Value: GD25LE255ELIG; Artikkelnr Noca: N.A.; Part number IPS: N.A.; ComponentLink1URL: https://www.gigadevice.com/datasheet/gd25le255e/; ComponentLink1Description: Datasheet; ComponentLink2URL: https://no.mouser.com/ProductDetail/GigaDevice/GD25LE255ELIGR?qs=81r%252BiQLm7BRinJH1OgrMdw%3D%3D; ComponentLink2Description: Supplier link; HelpURL: https://www.gigadevice.com/flash-memory/gd25le255e/; Supplier 1: Mouser; Supplier Part Number 1: 363-GD25LE255ELIGR; Supplier 2: N.A.; Supplier Part Number 2: N.A.; Author: rubr; Component Class: Misc_ICs; Part number Norautron: N.A.; PartId: 101900759
footprint BGA32C50P6X8_350X400X50
part A pins: C3 VCC (power), C4 ~{CS} (in), D3 IO3/~{HLD}/~{RST} (io), D4 IO1/SO (io), E3 SCLK (in), E4 IO2/~{WP} (io), F3 IO0/SI (io), F4 VSS (power)
part B pins: A1 NC, A2 NC, A5 NC, A6 NC, B1 NC, B2 NC, B5 NC, B6 NC, D1 NC, D2 DNU, D5 NC, D6 NC, E1 NC, E2 NC, E5 NC, E6 NC, G1 NC, G2 NC, G5 NC, G6 NC, H1 NC, H2 NC, H5 NC, H6 NC, x NC hidden

## GMC04CG100G50NT
designator C?, comment 10pF 50V
CAP0402 COG 10PF 2% 50V; Manufacturer: Cal-Chip Electronics, Inc.; Supplier: Digi; 4713-GMC04CG100G50NTDKR-ND
footprint CAPC1005X04L (Chip Capacitor, 2-Leads, Body 1.0x0.5mm, IPC High Density)
pins: 1, 2

## GMC04CG151G50NT
designator C?, comment 150pF 50V
150 pF ±2% 50V Ceramic Capacitor C0G, NP0 0402 (1005 Metric); Manufacturer: Cal-Chip Electronics, Inc.; Supplier: Digi; 2571-GMC04CG151G50NTTR-ND
footprint CAPC1005X04L (Chip Capacitor, 2-Leads, Body 1.0x0.5mm, IPC High Density)
pins: 1, 2

## GMC04CG181F50NT
designator C?, comment 180pF 50V
180 pF ±1% 50V Ceramic Capacitor C0G, NP0 0402 (1005 Metric)
footprint CAPC1005X04L (Chip Capacitor, 2-Leads, Body 1.0x0.5mm, IPC High Density)
pins: 1, 2

## GMC04CG330F50NT
designator C?, comment 33pF 50V
33 pF ±1% 50V Ceramic Capacitor C0G, NP0 0402 (1005 Metric); Manufacturer: Cal-Chip Electronics, Inc.; Supplier: Digi; 2571-GMC04CG330F50NTTR-ND
footprint CAPC1005X04L (Chip Capacitor, 2-Leads, Body 1.0x0.5mm, IPC High Density)
pins: 1, 2

## GMC04CG361J50NT
designator C?, comment 360pF 50V
360 pF ±5% 50V Ceramic Capacitor C0G, NP0 0402 (1005 Metric); Manufacturer: Cal-Chip Electronics, Inc.; Supplier: Digi; 4713-GMC04CG361J50NTDKR-ND
footprint CAPC1005X04L (Chip Capacitor, 2-Leads, Body 1.0x0.5mm, IPC High Density)
pins: 1, 2

## GMC10CG470F200NT
designator C?, comment 47pF
47 pF ±1% 200V Ceramic Capacitor C0G, NP0 0603 (1608 Metric); MPN: GMC10CG470F200NT; Manufacturer: Cal-Chip Electronics, Inc.; Supplier: 4713-GMC10CG470F200NTDKR-ND
footprint CAPC1608X100N
pins: 1, 2

## GRM32ER61E226KE15L
designator C?
Capacitor; Manufacturer_Name: Murata Electronics; Manufacturer_Part_Number: GRM32ER61E226KE15L; Datasheet Link: http://psearch.en.murata.com/capacitor/product/GRM32ER71E226KE15%23.pdf; Height: 2.7mm; Mouser Part Number: 81-GRM32ER61E226KE15; Mouser Price/Stock: https://www.mouser.co.uk/ProductDetail/Murata-Electronics/GRM32ER61E226KE15L?qs=CHiu0TXTCq%252Bo%252Bcqcz70txw%3D%3D; Arrow Part Number: GRM32ER61E226KE15L; Arrow Price/Stock: https://www.arrow.com/en/products/grm32er61e226ke15l/murata-manufacturing?region=nac
footprint CAPC3225X270N
pins: 1, 2

## GSB311131HR
designator J
USB-A _USB TYPE-A_ USB 3.0 _USB 3.1 Gen 1, Superspeed_ Receptacle Connector 9 Position Through Hole, Right Angle; MF: Amphenol ICC; MP: GSB311131HR; Package: None; Digi-Key_Purchase_URL: https://www.digikey.ru/product-detail/en/amphenol-icc-commercial-products/GSB311131HR/GSB311131HR-ND/2187173?utm_source=snapeda&utm_medium=aggregator&utm_campaign=symbol; Value: *; SnapEDA_Link: https://www.snapeda.com/parts/GSB311131HR/Amphenol%20FCI/view-part/229215/?ref=snap; Digi-Key_Part_Number: GSB311131HR-ND
footprint AMPHENOL_GSB311131HR
pins: 1 VBUS, 2 D-, 3 D+, 4 GND, 5 SSRX-, 6 SSRX+, 7 GND_DRAIN, 8 SSTX-, 9 SSTX+, SH1 SHIELD, SH2 SHIELD

## HLK-LD2451 RADAR
designator *
footprint HLK-LD2451 RADAR (2.54mm DIL PC TAIL PIN HEADER ASSEMBLY)
text: RADAR

## HTSW-106-07-L-S
designator J?
Connector Header Through Hole 6 position 0.100 (2.54mm); MF: Samtec; MP: HTSW-106-07-L-S; Package: None; Price: None; Check_prices: https://www.snapeda.com/parts/HTSW-106-07-L-S/Samtec/view-part/?ref=eda; Value: *; SnapEDA_Link: https://www.snapeda.com/parts/HTSW-106-07-L-S/Samtec/view-part/?ref=snap; Availability: In Stock; Purchase-URL: https://pricing.snapeda.com/search/part/HTSW-106-07-L-S/?ref=eda
footprint SAMTEC_HTSW-106-07-L-S
pins: 01 GND, 02 CTS, 03 VCC, 04 TXO, 05 RXI, 06 DTR

## ICS-43434
designator MK?
60 Hz ~ 20 kHz Digital, IÂ²S Microphone MEMS (Silicon) 1.65 V ~ 3.63 V Omnidirectional (-26 Â±1dB @ 94dB SPL) Solder Pads; MF: TDK InvenSense; Price: None; MP: ICS-43434; SnapEDA_Link: https://www.snapeda.com/parts/ICS-43434/TDK+InvenSense/view-part/?ref=snap; Package: Custom Package TDK InvenSense; Availability: In Stock; Check_prices: https://www.snapeda.com/parts/ICS-43434/TDK+InvenSense/view-part/?ref=eda; Purchase-URL: https://pricing.snapeda.com/search/part/ICS-43434/?ref=eda; Value: *
footprint MIC_ICS-43434
pins: 1 WS (in), 2 LR (in), 3 GND (power), 4 SCK (in), 5 VDD (power), 6 SD (out)

## ICS-43434_1
designator MK?, comment ICS-43434
60 Hz ~ 20 kHz Digital, IÂ²S Microphone MEMS (Silicon) 1.65 V ~ 3.63 V Omnidirectional (-26 Â±1dB @ 94dB SPL) Solder Pads; MF: TDK InvenSense; Price: None; MP: ICS-43434; SnapEDA_Link: https://www.snapeda.com/parts/ICS-43434/TDK+InvenSense/view-part/?ref=snap; Package: Custom Package TDK InvenSense; Availability: In Stock; Check_prices: https://www.snapeda.com/parts/ICS-43434/TDK+InvenSense/view-part/?ref=eda; Purchase-URL: https://pricing.snapeda.com/search/part/ICS-43434/?ref=eda; Value: *
footprint MIC_ICS-43434
pins: 1 WS (in), 2 LR (in), 3 GND (power), 4 SCK (in), 5 VDD (power), 6 SD (out)

## INDUCTOR
designator L?
footprint ISENSOR_1
pins: 1, 2

## JUMPER
designator J?
footprint SB-tiny
pins: 1, 2

## L0201-2n2
designator L?, comment 2.2nH
Chip Inductor; Part Number: L0201-2n2; Part number NEMS: 100300017; Pad Count: 2; Artikkelnr Noca: N.A.; Note: High frequency chip inductor ±5%; Component Status: Active; Footprint Doc: 0201; Value: 2.2nH; Component Class: Inductors; Author: rsk; ComponentLink1Description: Datasheet; ComponentLink1URL: N.A.; ComponentLink2Description: Supplier link; ComponentLink2URL: N.A.; HelpURL: N.A.; LatestRevisionDate: 2013-04-10; Manufacturer: N.A.; Manufacturer Part Number: N.A.; PartId: 100300017; Part number IPS: N.A.; Part number Norautron: N.A.; Published: 2013-04-10; Supplier 1: N.A.; Supplier 2: N.A.; Supplier Part Number 1: N.A.; Supplier Part Number 2: N.A.
footprint INDC0603X03L_C
pins: 1, 2

## L0201-2n2_1
designator L?, comment 2.2nH
Chip Inductor; Part Number: L0201-2n2; Part number NEMS: 100300017; Pad Count: 2; Artikkelnr Noca: N.A.; Note: High frequency chip inductor ±5%; Component Status: Active; Footprint Doc: 0201; Value: 2.2nH; Component Class: Inductors; Author: rsk; ComponentLink1Description: Datasheet; ComponentLink1URL: N.A.; ComponentLink2Description: Supplier link; ComponentLink2URL: N.A.; HelpURL: N.A.; LatestRevisionDate: 2013-04-10; Manufacturer: N.A.; Manufacturer Part Number: N.A.; PartId: 100300017; Part number IPS: N.A.; Part number Norautron: N.A.; Published: 2013-04-10; Supplier 1: N.A.; Supplier 2: N.A.; Supplier Part Number 1: N.A.; Supplier Part Number 2: N.A.
footprint INDC0603X03L_C
pins: 1, 2

## L0402-2n5-Wirewound-Murata-LQW15AN2N5G80
designator Z?, comment 2.5nH
Inductor, 2100mA, ±2%, 30mΩ, Q=30; Part Number: L0402-2n5-Wirewound-Murata-LQW15AN2N5G80; Manufacturer: Murata; Manufacturer Part Number: LQW15AN2N5G80D; Part number NEMS: 100300417; Pad Count: 2; Note: -55°C ~ 125°C; Artikkelnr Noca: N.A.; Component Status: Active; Component Class: Inductors; Author: masi; ComponentLink1URL: https://www.murata.com/products/productdetail?partno=LQW15AN2N5G80%23; ComponentLink1Description: Datasheet; ComponentLink2URL: N.A.; ComponentLink2Description: Supplier link; HelpURL: https://search.murata.co.jp/Ceramy/image/img/P02/JELF243A-0100.pdf; Footprint Doc: 0402; LatestRevisionDate: 2022-08-18; Published: 2022-08-18; Value: 2.5nH; Supplier 1: Digi-Key; Supplier Part Number 1: LQW15AN2N5G80D-ND; Supplier 2: Mouser; Supplier Part Number 2: 81-LQW15AN2N5G80D; Part number IPS: N.A.; Part number Norautron: N.A.; PartId: 100300417
footprint INDC1005X04L_WW
footprint C1608X06L-C1005X04M (Chip Capacitor, 2-Leads, Body 1.6x0.8mm, IPC High Density)
pins: 1, 2

## L0402-2n5-Wirewound-Murata-LQW15AN2N5G80_1
designator Z?, comment 2.5nH
Inductor, 2100mA, ±2%, 30mΩ, Q=30; Part Number: L0402-2n5-Wirewound-Murata-LQW15AN2N5G80; Manufacturer: Murata; Manufacturer Part Number: LQW15AN2N5G80D; Part number NEMS: 100300417; Pad Count: 2; Note: -55°C ~ 125°C; Artikkelnr Noca: N.A.; Component Status: Active; Component Class: Inductors; Author: masi; ComponentLink1URL: https://www.murata.com/products/productdetail?partno=LQW15AN2N5G80%23; ComponentLink1Description: Datasheet; ComponentLink2URL: N.A.; ComponentLink2Description: Supplier link; HelpURL: https://search.murata.co.jp/Ceramy/image/img/P02/JELF243A-0100.pdf; Footprint Doc: 0402; LatestRevisionDate: 2022-08-18; Published: 2022-08-18; Value: 2.5nH; Supplier 1: Digi-Key; Supplier Part Number 1: LQW15AN2N5G80D-ND; Supplier 2: Mouser; Supplier Part Number 2: 81-LQW15AN2N5G80D; Part number IPS: N.A.; Part number Norautron: N.A.; PartId: 100300417
footprint INDC1005X04L_WW
footprint C1608X06L-C1005X04M (Chip Capacitor, 2-Leads, Body 1.6x0.8mm, IPC High Density)
pins: 1, 2

## L0402-2n8-1500mA-47mΩ-LQW15AN2N8G80
designator Z?, comment 2.8nH
Inductor, 1500mA, ±2%, 47mΩ, Q=27; Part Number: L0402-2n8-1500mA-47mΩ-LQW15AN2N8G80; Manufacturer: Murata; Manufacturer Part Number: LQW15AN2N8G80D; Part number NEMS: 100300422; Component Status: Active; Pad Count: 2; Note: -55°C ~ 125°C; Artikkelnr Noca: N.A.; PartId: 100300422; Component Class: Inductors; Author: rubr; ComponentLink1URL: https://eu.mouser.com/datasheet/2/281/1/JELF243A_0100-1380931.pdf; ComponentLink1Description: Datasheet; ComponentLink2URL: https://eu.mouser.com/ProductDetail/Murata-Electronics/LQW15AN2N8G80D?qs=QzBtWTOodeVWFJcVhx7p6g%3D%3D; ComponentLink2Description: Supplier link; HelpURL: https://www.murata.com/en-us/products/productdetail?partno=LQW15AN2N8G80%23; LatestRevisionDate: 2022-12-16; Published: 2022-12-16; Footprint Doc: 0402; Value: 2.8nH; Supplier 1: Mouser; Supplier Part Number 1: 81-LQW15AN2N8G80D; Supplier 2: N.A.; Supplier Part Number 2: N.A.; Part number IPS: N.A.; Part number Norautron: N.A.
footprint INDC1005X04L_WW
footprint C1608X06L-C1005X04M (Chip Capacitor, 2-Leads, Body 1.6x0.8mm, IPC High Density)
pins: 1, 2

## L0402-2n8-1500mA-47mΩ-LQW15AN2N8G80_1
designator Z?, comment 2.8nH
Inductor, 1500mA, ±2%, 47mΩ, Q=27; Part Number: L0402-2n8-1500mA-47mΩ-LQW15AN2N8G80; Manufacturer: Murata; Manufacturer Part Number: LQW15AN2N8G80D; Part number NEMS: 100300422; Component Status: Active; Pad Count: 2; Note: -55°C ~ 125°C; Artikkelnr Noca: N.A.; PartId: 100300422; Component Class: Inductors; Author: rubr; ComponentLink1URL: https://eu.mouser.com/datasheet/2/281/1/JELF243A_0100-1380931.pdf; ComponentLink1Description: Datasheet; ComponentLink2URL: https://eu.mouser.com/ProductDetail/Murata-Electronics/LQW15AN2N8G80D?qs=QzBtWTOodeVWFJcVhx7p6g%3D%3D; ComponentLink2Description: Supplier link; HelpURL: https://www.murata.com/en-us/products/productdetail?partno=LQW15AN2N8G80%23; LatestRevisionDate: 2022-12-16; Published: 2022-12-16; Footprint Doc: 0402; Value: 2.8nH; Supplier 1: Mouser; Supplier Part Number 1: 81-LQW15AN2N8G80D; Supplier 2: N.A.; Supplier Part Number 2: N.A.; Part number IPS: N.A.; Part number Norautron: N.A.
footprint INDC1005X04L_WW
footprint C1608X06L-C1005X04M (Chip Capacitor, 2-Leads, Body 1.6x0.8mm, IPC High Density)
pins: 1, 2

## L0402-3n7-1950mA-30mΩ-LQW15AN3N7G80
designator Z?, comment 3.7nH
Inductor, 1950mA, ±2%, 30mΩ, Q=35; Part Number: L0402-3n7-1950mA-30mΩ-LQW15AN3N7G80; Manufacturer: Murata; Manufacturer Part Number: LQW15AN3N7G80D; Part number NEMS: 100300421; Pad Count: 2; Note: -55°C ~ 125°C; Artikkelnr Noca: N.A.; Component Status: Active; Component Class: Inductors; Author: rubr; ComponentLink1URL: https://eu.mouser.com/datasheet/2/281/1/JELF243A_0100-1380931.pdf; ComponentLink1Description: Datasheet; ComponentLink2URL: https://eu.mouser.com/ProductDetail/Murata-Electronics/LQW15AN3N7G80D?qs=QzBtWTOodeVvBMR8fc6sWg%3D%3D; ComponentLink2Description: Supplier link; HelpURL: https://www.murata.com/en-us/products/productdetail?partno=LQW15AN3N7G80%23; Footprint Doc: 0402; LatestRevisionDate: 2022-12-16; Published: 2022-12-16; Value: 3.7nH; Supplier 1: Mouser; Supplier Part Number 1: 81-LQW15AN3N7G80D; Supplier 2: N.A.; Supplier Part Number 2: N.A.; Part number IPS: N.A.; Part number Norautron: N.A.; PartId: 100300421
footprint INDC1005X04L_WW
footprint C1608X06L-C1005X04M (Chip Capacitor, 2-Leads, Body 1.6x0.8mm, IPC High Density)
pins: 1, 2

## L0402-3n7-1950mA-30mΩ-LQW15AN3N7G80_1
designator Z?, comment 3.7nH
Inductor, 1950mA, ±2%, 30mΩ, Q=35; Part Number: L0402-3n7-1950mA-30mΩ-LQW15AN3N7G80; Manufacturer: Murata; Manufacturer Part Number: LQW15AN3N7G80D; Part number NEMS: 100300421; Pad Count: 2; Note: -55°C ~ 125°C; Artikkelnr Noca: N.A.; Component Status: Active; Component Class: Inductors; Author: rubr; ComponentLink1URL: https://eu.mouser.com/datasheet/2/281/1/JELF243A_0100-1380931.pdf; ComponentLink1Description: Datasheet; ComponentLink2URL: https://eu.mouser.com/ProductDetail/Murata-Electronics/LQW15AN3N7G80D?qs=QzBtWTOodeVvBMR8fc6sWg%3D%3D; ComponentLink2Description: Supplier link; HelpURL: https://www.murata.com/en-us/products/productdetail?partno=LQW15AN3N7G80%23; Footprint Doc: 0402; LatestRevisionDate: 2022-12-16; Published: 2022-12-16; Value: 3.7nH; Supplier 1: Mouser; Supplier Part Number 1: 81-LQW15AN3N7G80D; Supplier 2: N.A.; Supplier Part Number 2: N.A.; Part number IPS: N.A.; Part number Norautron: N.A.; PartId: 100300421
footprint INDC1005X04L_WW
footprint C1608X06L-C1005X04M (Chip Capacitor, 2-Leads, Body 1.6x0.8mm, IPC High Density)
pins: 1, 2

## L0402-3n8-Wirewound-Murata_HQ-LQW15AN3N8G80D
designator Z?, comment 3.8nH
3.8 nH Unshielded Drum Core, Wirewound Inductor 1.95 A 30mOhm Max 0402 (1005 Metric); Part Number: L0402-3n8-Wirewound-Murata_HQ-LQW15AN3N8G80D; Manufacturer: Murata; Manufacturer Part Number: LQW15AN3N8G80D; Part number NEMS: 100300486; Pad Count: 2; Note: -55°C ~ 125°C; Artikkelnr Noca: N.A.; Component Status: Active; Component Class: Inductors; Author: getr; ComponentLink1URL: https://search.murata.co.jp/Ceramy/image/img/P02/JELF243A-0100.pdf; ComponentLink1Description: Datasheet; ComponentLink2URL: https://www.digikey.no/en/products/detail/murata-electronics/LQW15AN3N8G80D/10699152?s=N4IgTCBcDaIDYEcDuBGArAQwHYGYsA4BxfABhAF0BfIA; ComponentLink2Description: Supplier link; HelpURL: https://www.murata.com/en-eu/products/productdetail?partno=LQW15AN3N8G80%23; Footprint Doc: 0402; LatestRevisionDate: 2023-10-30; Published: 2023-10-30; Value: 3.8nH; Supplier 1: Digi-Key; Supplier Part Number 1: 490-LQW15AN3N8G80DTR-ND; Supplier 2: N.A.; Supplier Part Number 2: N.A.; Part number IPS: N.A.; Part number Norautron: N.A.; PartId: 100300486
footprint INDC1005X04L_WW
footprint C1608X06L-C1005X04M (Chip Capacitor, 2-Leads, Body 1.6x0.8mm, IPC High Density)
pins: 1, 2

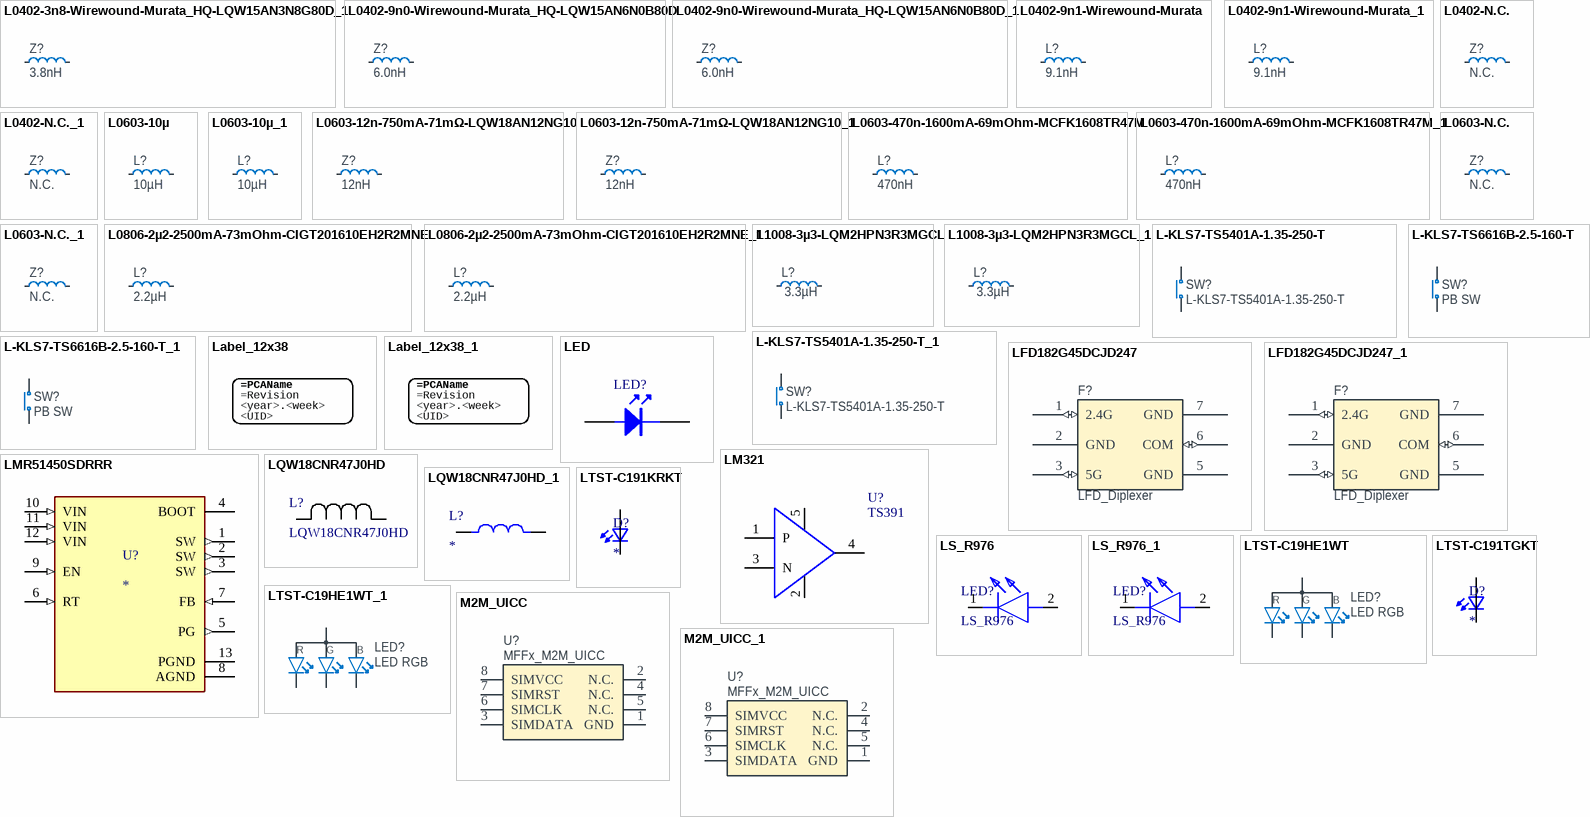
[diagram p7: symbols L0402-3n8-Wirewound-Murata_HQ-LQW15AN3N8G80D_1 to M2M_UICC_1]

## L0402-3n8-Wirewound-Murata_HQ-LQW15AN3N8G80D_1
designator Z?, comment 3.8nH
3.8 nH Unshielded Drum Core, Wirewound Inductor 1.95 A 30mOhm Max 0402 (1005 Metric); Part Number: L0402-3n8-Wirewound-Murata_HQ-LQW15AN3N8G80D; Manufacturer: Murata; Manufacturer Part Number: LQW15AN3N8G80D; Part number NEMS: 100300486; Pad Count: 2; Note: -55°C ~ 125°C; Artikkelnr Noca: N.A.; Component Status: Active; Component Class: Inductors; Author: getr; ComponentLink1URL: https://search.murata.co.jp/Ceramy/image/img/P02/JELF243A-0100.pdf; ComponentLink1Description: Datasheet; ComponentLink2URL: https://www.digikey.no/en/products/detail/murata-electronics/LQW15AN3N8G80D/10699152?s=N4IgTCBcDaIDYEcDuBGArAQwHYGYsA4BxfABhAF0BfIA; ComponentLink2Description: Supplier link; HelpURL: https://www.murata.com/en-eu/products/productdetail?partno=LQW15AN3N8G80%23; Footprint Doc: 0402; LatestRevisionDate: 2023-10-30; Published: 2023-10-30; Value: 3.8nH; Supplier 1: Digi-Key; Supplier Part Number 1: 490-LQW15AN3N8G80DTR-ND; Supplier 2: N.A.; Supplier Part Number 2: N.A.; Part number IPS: N.A.; Part number Norautron: N.A.; PartId: 100300486
footprint INDC1005X04L_WW
footprint C1608X06L-C1005X04M (Chip Capacitor, 2-Leads, Body 1.6x0.8mm, IPC High Density)
pins: 1, 2

## L0402-9n0-Wirewound-Murata_HQ-LQW15AN6N0B80D
designator Z?, comment 6.0nH
6 nH Unshielded Drum Core, Wirewound Inductor 1.6 A 56mOhm Max 0402 (1005 Metric); Part Number: L0402-9n0-Wirewound-Murata_HQ-LQW15AN6N0B80D; Manufacturer: Murata; Manufacturer Part Number: LQW15AN6N0B80D; Part number NEMS: 100300487; Pad Count: 2; Note: -55°C ~ 125°C; Artikkelnr Noca: N.A.; Component Status: Active; Component Class: Inductors; Author: getr; ComponentLink1URL: https://search.murata.co.jp/Ceramy/image/img/P02/JELF243A-0100.pdf; ComponentLink1Description: Datasheet; ComponentLink2URL: https://www.digikey.no/en/products/detail/murata-electronics/LQW15AN6N0B80D/4905956?s=N4IgTCBcDaIDYEcDuBGArAQwHYDYsAYAjADnxAF0BfIA; ComponentLink2Description: Supplier link; HelpURL: https://www.murata.com/en-eu/products/productdetail?partno=LQW15AN6N0B80%23; Footprint Doc: 0402; LatestRevisionDate: 2023-10-30; Published: 2023-10-30; Value: 6.0nH; Supplier 1: Digi-Key; Supplier Part Number 1: 490-17896-1-ND; Supplier 2: N.A.; Supplier Part Number 2: N.A.; Part number IPS: N.A.; Part number Norautron: N.A.; PartId: 100300487
footprint INDC1005X04L_WW
footprint C1608X06L-C1005X04M (Chip Capacitor, 2-Leads, Body 1.6x0.8mm, IPC High Density)
pins: 1, 2

## L0402-9n0-Wirewound-Murata_HQ-LQW15AN6N0B80D_1
designator Z?, comment 6.0nH
6 nH Unshielded Drum Core, Wirewound Inductor 1.6 A 56mOhm Max 0402 (1005 Metric); Part Number: L0402-9n0-Wirewound-Murata_HQ-LQW15AN6N0B80D; Manufacturer: Murata; Manufacturer Part Number: LQW15AN6N0B80D; Part number NEMS: 100300487; Pad Count: 2; Note: -55°C ~ 125°C; Artikkelnr Noca: N.A.; Component Status: Active; Component Class: Inductors; Author: getr; ComponentLink1URL: https://search.murata.co.jp/Ceramy/image/img/P02/JELF243A-0100.pdf; ComponentLink1Description: Datasheet; ComponentLink2URL: https://www.digikey.no/en/products/detail/murata-electronics/LQW15AN6N0B80D/4905956?s=N4IgTCBcDaIDYEcDuBGArAQwHYDYsAYAjADnxAF0BfIA; ComponentLink2Description: Supplier link; HelpURL: https://www.murata.com/en-eu/products/productdetail?partno=LQW15AN6N0B80%23; Footprint Doc: 0402; LatestRevisionDate: 2023-10-30; Published: 2023-10-30; Value: 6.0nH; Supplier 1: Digi-Key; Supplier Part Number 1: 490-17896-1-ND; Supplier 2: N.A.; Supplier Part Number 2: N.A.; Part number IPS: N.A.; Part number Norautron: N.A.; PartId: 100300487
footprint INDC1005X04L_WW
footprint C1608X06L-C1005X04M (Chip Capacitor, 2-Leads, Body 1.6x0.8mm, IPC High Density)
pins: 1, 2